# EAGLE library part MINI-32 (library MINI-32)
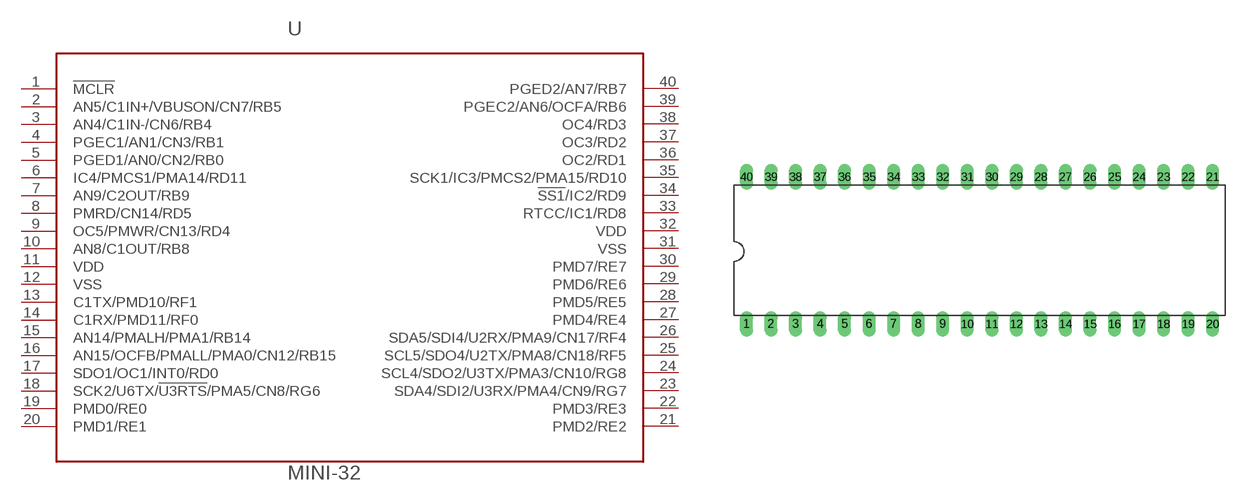
[diagram p0: symbol with the pads of DIL40; footprint DIL40]

Designator prefix U

## MINI-32DIL40  [DIL40]
1  !MCLR  in
2  AN5/C1IN+/VBUSON/CN7/RB5
3  AN4/C1IN-/CN6/RB4
4  PGEC1/AN1/CN3/RB1
5  PGED1/AN0/CN2/RB0
6  IC4/PMCS1/PMA14/RD11
7  AN9/C2OUT/RB9
8  PMRD/CN14/RD5
9  OC5/PMWR/CN13/RD4
10  AN8/C1OUT/RB8
11  VDD  pwr
12  VSS  pwr
13  C1TX/PMD10/RF1
14  C1RX/PMD11/RF0
15  AN14/PMALH/PMA1/RB14
16  AN15/OCFB/PMALL/PMA0/CN12/RB15
17  SDO1/OC1/INT0/RD0
18  SCK2/U6TX/!U3RTS!/PMA5/CN8/RG6
19  PMD0/RE0
20  PMD1/RE1
21  PMD2/RE2
22  PMD3/RE3
23  SDA4/SDI2/U3RX/PMA4/CN9/RG7
24  SCL4/SDO2/U3TX/PMA3/CN10/RG8
25  SCL5/SDO4/U2TX/PMA8/CN18/RF5
26  SDA5/SDI4/U2RX/PMA9/CN17/RF4
27  PMD4/RE4
28  PMD5/RE5
29  PMD6/RE6
30  PMD7/RE7
31  VSS  pwr
32  VDD  pwr
33  RTCC/IC1/RD8
34  !SS1!/IC2/RD9
35  SCK1/IC3/PMCS2/PMA15/RD10
36  OC2/RD1
37  OC3/RD2
38  OC4/RD3
39  PGEC2/AN6/OCFA/RB6
40  PGED2/AN7/RB7

## Footprint DIL40 (pad centres in mm)
Dual In Line Package
drill 0.813 long: 1 -24.13,-7.62; 2 -21.59,-7.62; 3 -19.05,-7.62; 4 -16.51,-7.62; 5 -13.97,-7.62; 6 -11.43,-7.62; 7 -8.89,-7.62; 8 -6.35,-7.62; 9 -3.81,-7.62; 10 -1.27,-7.62; 11 1.27,-7.62; 12 3.81,-7.62; 13 6.35,-7.62; 14 8.89,-7.62; 15 11.43,-7.62; 16 13.97,-7.62; 17 16.51,-7.62; 18 19.05,-7.62; 19 21.59,-7.62; 20 24.13,-7.62; 21 24.13,7.62; 22 21.59,7.62; 23 19.05,7.62; 24 16.51,7.62; 25 13.97,7.62; 26 11.43,7.62; 27 8.89,7.62; 28 6.35,7.62; 29 3.81,7.62; 30 1.27,7.62; 31 -1.27,7.62; 32 -3.81,7.62; 33 -6.35,7.62; 34 -8.89,7.62; 35 -11.43,7.62; 36 -13.97,7.62; 37 -16.51,7.62; 38 -19.05,7.62; 39 -21.59,7.62; 40 -24.13,7.62